# EAGLE library part GAMEBOYZEROHANDHELDDISPLAYS-2.2 (library GameboyZeroHandheldDisplays)
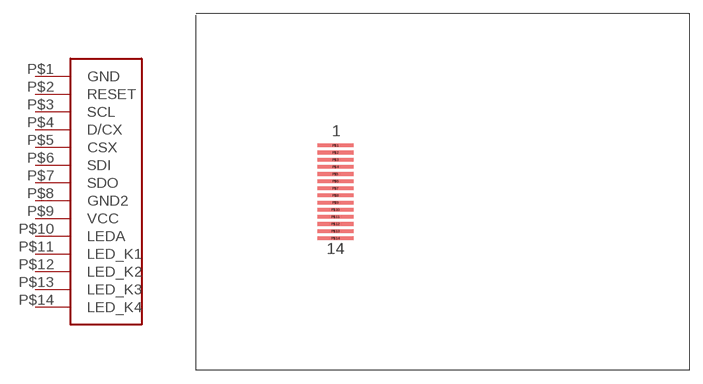
[diagram p1: symbol with the pads of GAMEBOYZEROHANDHELDDISPLAYS-2.2; footprint GAMEBOYZEROHANDHELDDISPLAYS-2.2]

Designator prefix -

## GAMEBOYZEROHANDHELDDISPLAYS-2.2  [GAMEBOYZEROHANDHELDDISPLAYS-2.2]
P$1  GND
P$2  RESET
P$3  SCL
P$4  D/CX
P$5  CSX
P$6  SDI
P$7  SDO
P$8  GND2
P$9  VCC
P$10  LEDA
P$11  LED_K1
P$12  LED_K2
P$13  LED_K3
P$14  LED_K4

## Footprint GAMEBOYZEROHANDHELDDISPLAYS-2.2 (pad centres in mm)
Gameboy Zero Handheld Displays - 2.2 Inch connector for ili9341 screens with SPI interface
smd 4 x 0.4: P$1 -12,5.2; P$2 -12,4.4; P$3 -12,3.6; P$4 -12,2.8; P$5 -12,2; P$6 -12,1.2; P$7 -12,0.4; P$8 -12,-0.4; P$9 -12,-1.2; P$10 -12,-2; P$11 -12,-2.8; P$12 -12,-3.6; P$13 -12,-4.4; P$14 -12,-5.2